# Altium integrated library Altium Database Library V2.IntLib: 825 symbols (part 26 of 40)

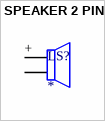
[diagram p503: symbol SPEAKER 2 PIN]

## SPEAKER 2 PIN
designator LS?
pins: +, -


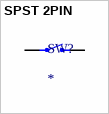
[diagram p504: symbol SPST 2PIN]

## SPST 2PIN
designator SW?
pins: 1, 2


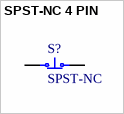
[diagram p505: symbol SPST-NC 4 PIN]

## SPST-NC 4 PIN
designator S?, comment SPST-NC
pins: 1, 2, 3, 4


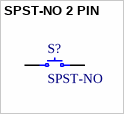
[diagram p506: symbol SPST-NO 2 PIN]

## SPST-NO 2 PIN
designator S?, comment SPST-NO
pins: 1, 2


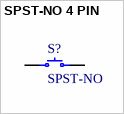
[diagram p507: symbol SPST-NO 4 PIN]

## SPST-NO 4 PIN
designator S?, comment SPST-NO
pins: 1, 2, 3, 4


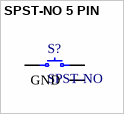
[diagram p508: symbol SPST-NO 5 PIN]

## SPST-NO 5 PIN
designator S?, comment SPST-NO
pins: 1, 2, 3, 4, 5 GND


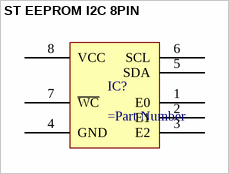
[diagram p509: symbol ST EEPROM I2C 8PIN]

## ST EEPROM I2C 8PIN
designator IC?
pins: 1 E0, 2 E1, 3 E2, 4 GND, 5 SDA, 6 SCL, 7 ~{WC}, 8 VCC


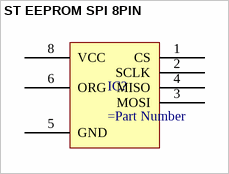
[diagram p510: symbol ST EEPROM SPI 8PIN]

## ST EEPROM SPI 8PIN
designator IC?
pins: 1 CS, 2 SCLK, 3 MOSI, 4 MISO, 5 GND, 6 ORG, 8 VCC


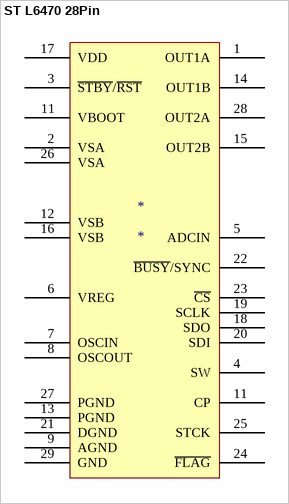
[diagram p511: symbol ST L6470 28Pin]

## ST L6470 28Pin
designator *
pins: 1 OUT1A, 2 VSA, 3 ~{STBY}/~{RST}, 4 SW, 5 ADCIN, 6 VREG, 7 OSCIN, 8 OSCOUT, 9 AGND, 11 CP, 11 VBOOT, 12 VSB, 13 PGND, 14 OUT1B, 15 OUT2B, 16 VSB, 17 VDD, 18 SDO, 19 SCLK, 20 SDI, 21 DGND, 22 ~{BUSY}/SYNC, 23 ~{CS}, 24 ~{FLAG}, 25 STCK, 26 VSA, 27 PGND, 28 OUT2A, 29 GND


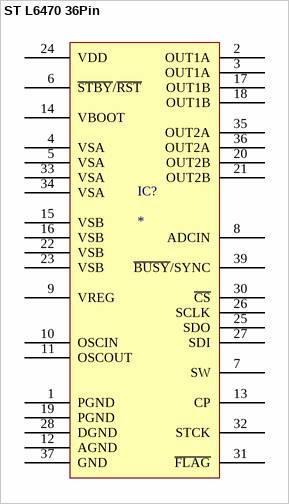
[diagram p512: symbol ST L6470 36Pin]

## ST L6470 36Pin
designator IC?
pins: 1 PGND, 2 OUT1A, 3 OUT1A, 4 VSA, 5 VSA, 6 ~{STBY}/~{RST}, 7 SW, 8 ADCIN, 9 VREG, 10 OSCIN, 11 OSCOUT, 12 AGND, 13 CP, 14 VBOOT, 15 VSB, 16 VSB, 17 OUT1B, 18 OUT1B, 19 PGND, 20 OUT2B, 21 OUT2B, 22 VSB, 23 VSB, 24 VDD, 25 SDO, 26 SCLK, 27 SDI, 28 DGND, 30 ~{CS}, 31 ~{FLAG}, 32 STCK, 33 VSA, 34 VSA, 35 OUT2A, 36 OUT2A, 37 GND, 39 ~{BUSY}/SYNC


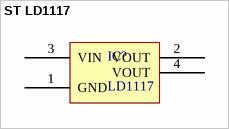
[diagram p513: symbol ST LD1117]

## ST LD1117
designator IC?, comment LD1117
Wide Temperature Three-Pin Adjustable Regulator
pins: 1 GND, 2 VOUT, 3 VIN, 4 VOUT


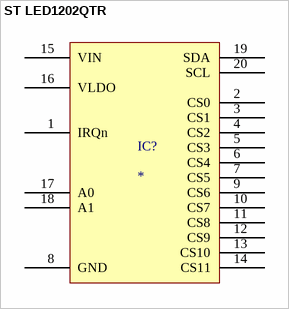
[diagram p514: symbol ST LED1202QTR]

## ST LED1202QTR
designator IC?
pins: 1 IRQn, 2 CS0, 3 CS1, 4 CS2, 5 CS3, 6 CS4, 7 CS5, 8 GND, 9 CS6, 10 CS7, 11 CS8, 12 CS9, 13 CS10, 14 CS11, 15 VIN, 16 VLDO, 17 A0, 18 A1, 19 SDA, 20 SCL


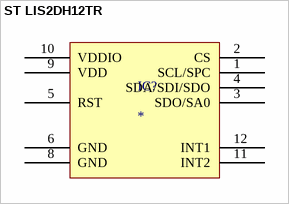
[diagram p515: symbol ST LIS2DH12TR]

## ST LIS2DH12TR
designator IC?
pins: 1 SCL/SPC, 2 CS, 3 SDO/SA0, 4 SDA/SDI/SDO, 5 RST, 6 GND, 8 GND, 9 VDD, 10 VDDIO, 11 INT2, 12 INT1


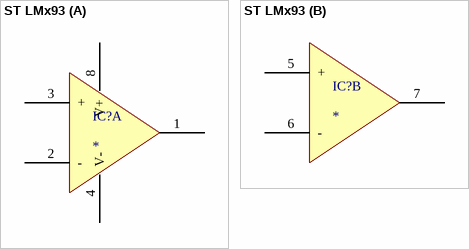
[diagram p516: symbol ST LMx93]

## ST LMx93
designator IC?
part A pins: 1 OUTA, 2 -, 3 +, 4 V-, 8 V+
part B pins: 5 +, 6 -, 7 OUTB


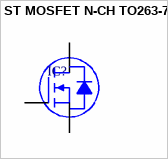
[diagram p517: symbol ST MOSFET N-CH TO263-7]

## ST MOSFET N-CH TO263-7
designator IC?
pins: 1 G, 2 S, 3 S, 5 S, 6 S, 7 S, 8 D


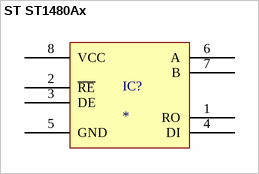
[diagram p518: symbol ST ST1480Ax]

## ST ST1480Ax
designator IC?
pins: 1 RO, 2 ~{RE}, 3 DE, 4 DI, 5 GND, 6 A, 7 B, 8 VCC


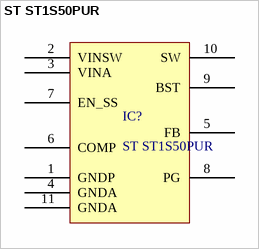
[diagram p519: symbol ST ST1S50PUR]

## ST ST1S50PUR
designator IC?
4 A monolithic synchronous step-down switching converter with high efficiency at light load
pins: 1 GNDP, 2 VINSW, 3 VINA, 4 GNDA, 5 FB, 6 COMP, 7 EN_SS, 8 PG, 9 BST, 10 SW, 11 GNDA


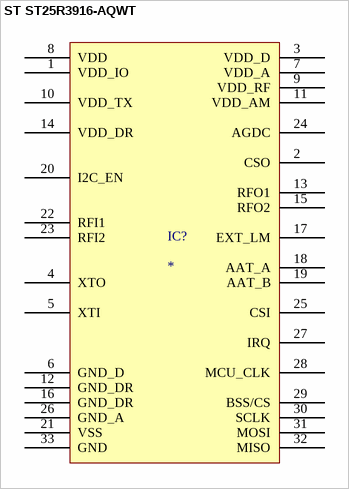
[diagram p520: symbol ST ST25R3916-AQWT]

## ST ST25R3916-AQWT
designator IC?
pins: 1 VDD_IO, 2 CSO, 3 VDD_D, 4 XTO, 5 XTI, 6 GND_D, 7 VDD_A, 8 VDD, 9 VDD_RF, 10 VDD_TX, 11 VDD_AM, 12 GND_DR, 13 RFO1, 14 VDD_DR, 15 RFO2, 16 GND_DR, 17 EXT_LM, 18 AAT_A, 19 AAT_B, 20 I2C_EN, 21 VSS, 22 RFI1, 23 RFI2, 24 AGDC, 25 CSI, 26 GND_A, 27 IRQ, 28 MCU_CLK, 29 BSS/CS, 30 SCLK, 31 MOSI, 32 MISO, 33 GND


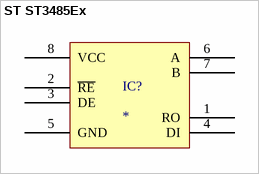
[diagram p521: symbol ST ST3485Ex]

## ST ST3485Ex
designator IC?
pins: 1 RO, 2 ~{RE}, 3 DE, 4 DI, 5 GND, 6 A, 7 B, 8 VCC


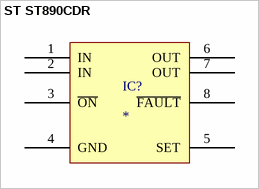
[diagram p522: symbol ST ST890CDR]

## ST ST890CDR
designator IC?
pins: 1 IN, 2 IN, 3 ~{ON}, 4 GND, 5 SET, 6 OUT, 7 OUT, 8 ~{FAULT}


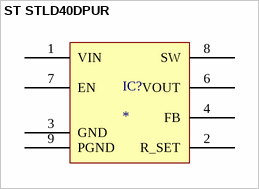
[diagram p523: symbol ST STLD40DPUR]

## ST STLD40DPUR
designator IC?
pins: 1 VIN, 2 R_SET, 3 GND, 4 FB, 6 VOUT, 7 EN, 8 SW, 9 PGND


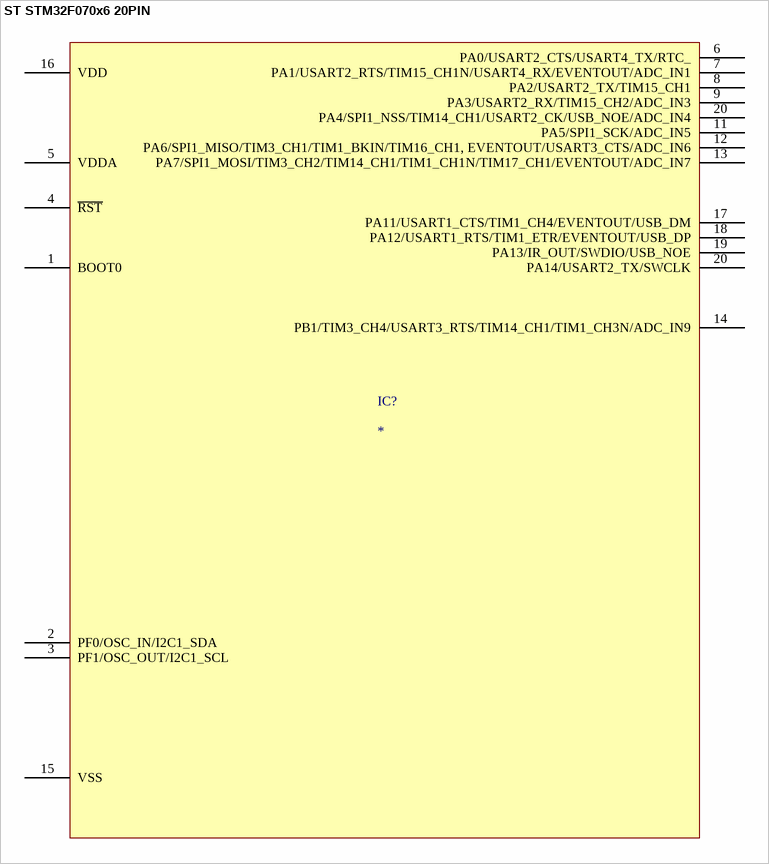
[diagram p524: symbol ST STM32F070x6 20PIN]

## ST STM32F070x6 20PIN
designator IC?
pins: 1 BOOT0, 2 PF0/OSC_IN/I2C1_SDA, 3 PF1/OSC_OUT/I2C1_SCL, 4 ~{RST}, 5 VDDA, 6 PA0/USART2_CTS/USART4_TX/RTC_, 7 PA1/USART2_RTS/TIM15_CH1N/USART4_RX/EVENTOUT/ADC_IN1, 8 PA2/USART2_TX/TIM15_CH1, 9 PA3/USART2_RX/TIM15_CH2/ADC_IN3, 11 PA5/SPI1_SCK/ADC_IN5, 12 PA6/SPI1_MISO/TIM3_CH1/TIM1_BKIN/TIM16_CH1, EVENTOUT/USART3_CTS/ADC_IN6, 13 PA7/SPI1_MOSI/TIM3_CH2/TIM14_CH1/TIM1_CH1N/TIM17_CH1/EVENTOUT/ADC_IN7, 14 PB1/TIM3_CH4/USART3_RTS/TIM14_CH1/TIM1_CH3N/ADC_IN9, 15 VSS, 16 VDD, 17 PA11/USART1_CTS/TIM1_CH4/EVENTOUT/USB_DM, 18 PA12/USART1_RTS/TIM1_ETR/EVENTOUT/USB_DP, 19 PA13/IR_OUT/SWDIO/USB_NOE, 20 PA4/SPI1_NSS/TIM14_CH1/USART2_CK/USB_NOE/ADC_IN4, 20 PA14/USART2_TX/SWCLK


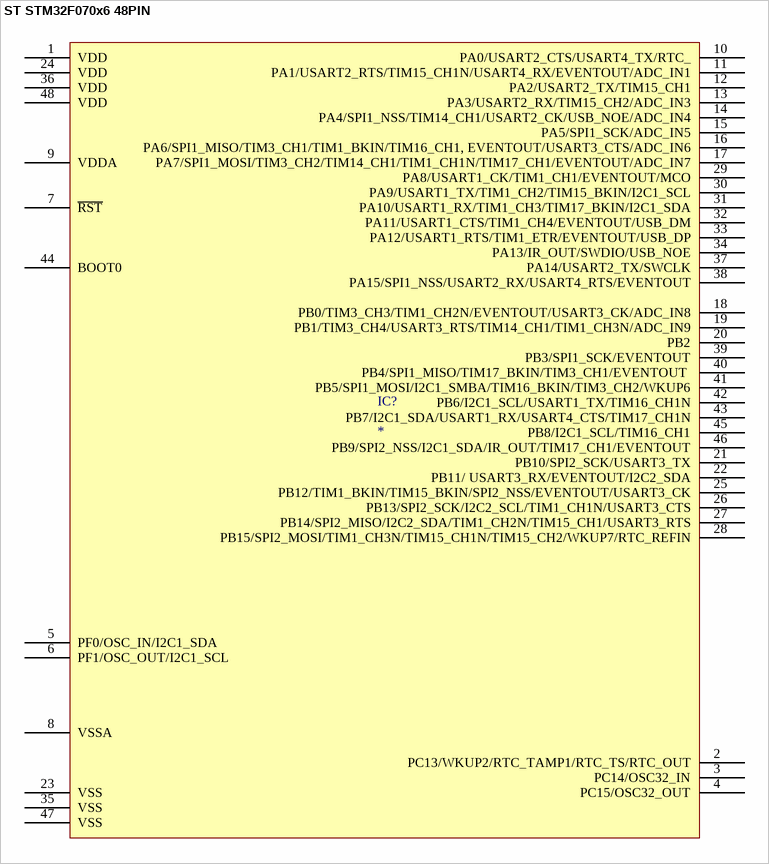
[diagram p525: symbol ST STM32F070x6 48PIN]

## ST STM32F070x6 48PIN
designator IC?
pins: 1 VDD, 2 PC13/WKUP2/RTC_TAMP1/RTC_TS/RTC_OUT, 3 PC14/OSC32_IN, 4 PC15/OSC32_OUT, 5 PF0/OSC_IN/I2C1_SDA, 6 PF1/OSC_OUT/I2C1_SCL, 7 ~{RST}, 8 VSSA, 9 VDDA, 10 PA0/USART2_CTS/USART4_TX/RTC_, 11 PA1/USART2_RTS/TIM15_CH1N/USART4_RX/EVENTOUT/ADC_IN1, 12 PA2/USART2_TX/TIM15_CH1, 13 PA3/USART2_RX/TIM15_CH2/ADC_IN3, 14 PA4/SPI1_NSS/TIM14_CH1/USART2_CK/USB_NOE/ADC_IN4, 15 PA5/SPI1_SCK/ADC_IN5, 16 PA6/SPI1_MISO/TIM3_CH1/TIM1_BKIN/TIM16_CH1, EVENTOUT/USART3_CTS/ADC_IN6, 17 PA7/SPI1_MOSI/TIM3_CH2/TIM14_CH1/TIM1_CH1N/TIM17_CH1/EVENTOUT/ADC_IN7, 18 PB0/TIM3_CH3/TIM1_CH2N/EVENTOUT/USART3_CK/ADC_IN8, 19 PB1/TIM3_CH4/USART3_RTS/TIM14_CH1/TIM1_CH3N/ADC_IN9, 20 PB2, 21 PB10/SPI2_SCK/USART3_TX, 22 PB11/ USART3_RX/EVENTOUT/I2C2_SDA, 23 VSS, 24 VDD, 25 PB12/TIM1_BKIN/TIM15_BKIN/SPI2_NSS/EVENTOUT/USART3_CK, 26 PB13/SPI2_SCK/I2C2_SCL/TIM1_CH1N/USART3_CTS, 27 PB14/SPI2_MISO/I2C2_SDA/TIM1_CH2N/TIM15_CH1/USART3_RTS, 28 PB15/SPI2_MOSI/TIM1_CH3N/TIM15_CH1N/TIM15_CH2/WKUP7/RTC_REFIN, 29 PA8/USART1_CK/TIM1_CH1/EVENTOUT/MCO, 30 PA9/USART1_TX/TIM1_CH2/TIM15_BKIN/I2C1_SCL, 31 PA10/USART1_RX/TIM1_CH3/TIM17_BKIN/I2C1_SDA, 32 PA11/USART1_CTS/TIM1_CH4/EVENTOUT/USB_DM, 33 PA12/USART1_RTS/TIM1_ETR/EVENTOUT/USB_DP, 34 PA13/IR_OUT/SWDIO/USB_NOE, 35 VSS, 36 VDD, 37 PA14/USART2_TX/SWCLK, 38 PA15/SPI1_NSS/USART2_RX/USART4_RTS/EVENTOUT, 39 PB3/SPI1_SCK/EVENTOUT, 40 PB4/SPI1_MISO/TIM17_BKIN/TIM3_CH1/EVENTOUT , 41 PB5/SPI1_MOSI/I2C1_SMBA/TIM16_BKIN/TIM3_CH2/WKUP6, 42 PB6/I2C1_SCL/USART1_TX/TIM16_CH1N, 43 PB7/I2C1_SDA/USART1_RX/USART4_CTS/TIM17_CH1N, 44 BOOT0, 45 PB8/I2C1_SCL/TIM16_CH1, 46 PB9/SPI2_NSS/I2C1_SDA/IR_OUT/TIM17_CH1/EVENTOUT, 47 VSS, 48 VDD
